# EAGLE library part LIS35DE (library ST Microelctronics_By_element14_Batch_1)
MEMS motion sensor
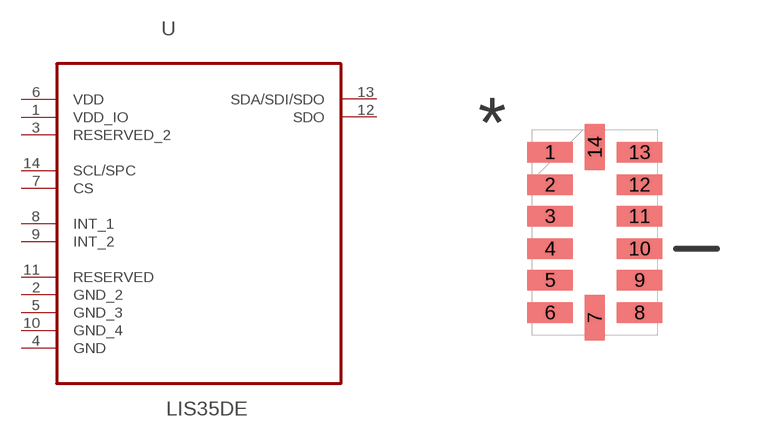
[diagram p83: symbol with the pads of LGA14R80P1X6_500X300X100; footprint LGA14R80P1X6_500X300X100]

Designator prefix U

## LIS35DE (MPN: LIS35DE; OC_FARNELL: 1838533; OC_NEWARK: 56P7995; PACKAGE: LGA-14; SUPPLIER: STMicroelectronics)  [LGA14R80P1X6_500X300X100]
1  VDD_IO  pwr
2  GND_2  pas
3  RESERVED_2  pwr
4  GND  pas
5  GND_3  pas
6  VDD  pwr
7  CS  in
8  INT_1  in
9  INT_2  in
10  GND_4  pas
11  RESERVED  pas
12  SDO  out
13  SDA/SDI/SDO
14  SCL/SPC  in

## Footprint LGA14R80P1X6_500X300X100 (pad centres in mm)
smd 1.143 x 0.508: 1 -1.118,2.007; 2 -1.118,1.194; 3 -1.118,0.406; 4 -1.118,-0.406; 5 -1.118,-1.194; 6 -1.118,-2.007; 8 1.118,-2.007; 9 1.118,-1.194; 10 1.118,-0.406; 11 1.118,0.406; 12 1.118,1.194; 13 1.118,2.007
smd 0.508 x 1.143: 7 0,-2.134; 14 0,2.134